# EAGLE library part A3906 (library usevolt)
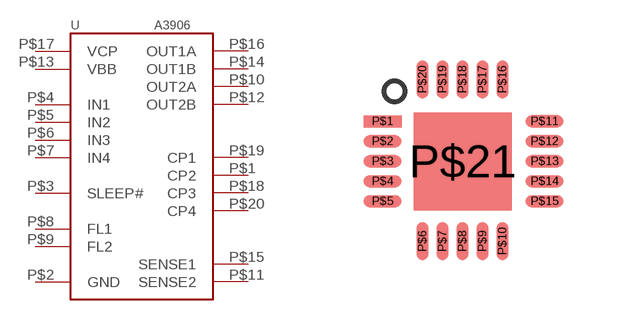
[diagram p7: symbol with the pads of QFN20; footprint QFN20]

Designator prefix U

## A3906  [QFN20]
P$1  CP2
P$2  GND
P$3  SLEEP#
P$4  IN1
P$5  IN2
P$6  IN3
P$7  IN4
P$8  FL1
P$9  FL2
P$10  OUT2A
P$11  SENSE2
P$12  OUT2B
P$13  VBB
P$14  OUT1B
P$15  SENSE1
P$16  OUT1A
P$17  VCP
P$18  CP3
P$19  CP1
P$20  CP4

## Footprint QFN20 (pad centres in mm)
smd 0.95 x 0.3: P$1 -2,1; P$2 -2,0.5; P$3 -2,0; P$4 -2,-0.5; P$5 -2,-1; P$11 2.05,1; P$12 2.05,0.5; P$13 2.05,0; P$14 2.05,-0.5; P$15 2.05,-1
smd 0.3 x 0.95: P$6 -1,-2; P$7 -0.5,-2; P$8 0,-2; P$9 0.5,-2; P$10 1,-2; P$16 1,2.05; P$17 0.5,2.05; P$18 0,2.05; P$19 -0.5,2.05; P$20 -1,2.05
smd 2.45 x 2.45: P$21 0,0